# EAGLE library part ATTINY*-84_20PIN (library IC_Embedded)
Atmel tiny24/44/84, 8-bit Microcontroller with 2/4/8K Bytes In-System Programmable Flash Datasheet <http://ww1.microchip.com/downloads/en/DeviceDoc/doc8006.pdf> Note:For this part User needs to add thermal via in thermal pad while designing a board.
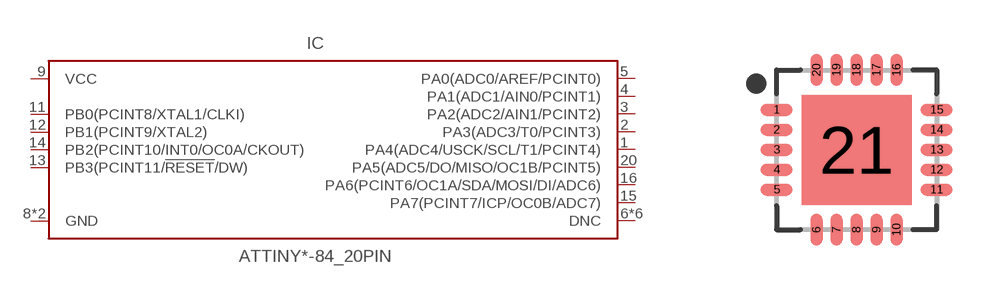
[diagram p23: symbol with the pads of QFN50P400X400X80-21T275; footprint QFN50P400X400X80-21T275]

Designator prefix IC

## ATTINY24-20MU-84_20PIN (CATEGORY: IC_Embedded; DESCRIPTION: AVR AVR® ATtiny Microcontroller IC 8-Bit 20MHz 2KB (1K x 16) FLASH 20-QFN-EP (4x4); MANUFACTURER: Microchip Technology; MPN: ATtiny24-20MU; OPERATING_TEMP: -40°C to +85°C; PART_STATUS: Active; ROHS_COMPLIANT: COMPLIANT; SERIES: ATtiny24; SPEED: 20 MHz; SUB-CATEGORY: Microcontroller; TYPE: 8 Bit Microcontroller; VALUE: ATtiny24-20MU), ATTINY24-20MUR-84_20PIN (CATEGORY: IC_Embedded; DESCRIPTION: AVR AVR® ATtiny Microcontroller IC 8-Bit 20MHz 2KB (1K x 16) FLASH 20-QFN-EP (4x4); MANUFACTURER: Microchip Technology; MPN: ATtiny24-20MUR; OPERATING_TEMP: -40°C to +85°C; PART_STATUS: Active; ROHS_COMPLIANT: COMPLIANT; SERIES: ATtiny24; SPEED: 20 MHz; SUB-CATEGORY: Microcontroller; TYPE: 8 Bit Microcontroller; VALUE: ATtiny24-20MUR), ATTINY24V-10MU-84_20PIN (CATEGORY: IC_Embedded; DESCRIPTION: AVR series Microcontroller IC 8-Bit 10MHz 2KB (1K x 16) FLASH 20-QFN-EP (4x4); MANUFACTURER: Microchip Technology; MPN: ATtiny24V-10MU; OPERATING_TEMP: -40°C to +85°C; PART_STATUS: Active; ROHS_COMPLIANT: COMPLIANT; SERIES: ATtiny24; SPEED: 10 MHz; SUB-CATEGORY: Microcontroller; TYPE: 8 Bit Microcontroller; VALUE: ATtiny24V-10MU), ATTINY24V-10MUR-84_20PIN (CATEGORY: IC_Embedded; DESCRIPTION: AVR series Microcontroller IC 8-Bit 10MHz 2KB (1K x 16) FLASH 20-QFN-EP (4x4); MANUFACTURER: Microchip Technology; MPN: ATtiny24V-10MUR; OPERATING_TEMP: -40°C to +85°C; PART_STATUS: Active; ROHS_COMPLIANT: COMPLIANT; SERIES: ATtiny24; SPEED: 10 MHz; SUB-CATEGORY: Microcontroller; TYPE: 8 Bit Microcontroller; VALUE: ATtiny24V-10MUR), ATTINY44-20MU-84_20PIN (CATEGORY: IC_Embedded; DESCRIPTION: AVR series Microcontroller IC 8-Bit 20MHz 4KB (2K x 16) FLASH 20-QFN-EP (4x4); MANUFACTURER: Microchip Technology; MPN: ATtiny44-20MU; OPERATING_TEMP: -40°C to +85°C; PART_STATUS: Active; ROHS_COMPLIANT: COMPLIANT; SERIES: ATtiny44; SPEED: 20 MHz; SUB-CATEGORY: Microcontroller; TYPE: 8 Bit Microcontroller; VALUE: ATtiny44-20MU), ATTINY44-20MUR-84_20PIN (CATEGORY: IC_Embedded; DESCRIPTION: AVR AVR® ATtiny Microcontroller IC 8-Bit 20MHz 4KB (2K x 16) FLASH 20-QFN-EP (4x4); MANUFACTURER: Microchip Technology; MPN: ATtiny44-20MUR; OPERATING_TEMP: -40°C to +85°C; PART_STATUS: Active; ROHS_COMPLIANT: COMPLIANT; SERIES: ATtiny44; SPEED: 20 MHz; SUB-CATEGORY: Microcontroller; TYPE: 8 Bit Microcontroller; VALUE: ATtiny44-20MUR), ATTINY44V-10MU-84_20PIN (CATEGORY: IC_Embedded; DESCRIPTION: AVR AVR® ATtiny Microcontroller IC 8-Bit 10MHz 4KB (2K x 16) FLASH 20-QFN-EP (4x4); MANUFACTURER: Microchip Technology; MPN: ATtiny44V-10MU; OPERATING_TEMP: -40°C to +85°C; PART_STATUS: Active; ROHS_COMPLIANT: COMPLIANT; SERIES: ATtiny44; SPEED: 10 MHz; SUB-CATEGORY: Microcontroller; TYPE: 8 Bit Microcontroller; VALUE: ATtiny44V-10MU), ATTINY44V-10MUR-84_20PIN (CATEGORY: IC_Embedded; DESCRIPTION: AVR series Microcontroller IC 8-Bit 10MHz 4KB (2K x 16) FLASH 20-QFN-EP (4x4); MANUFACTURER: Microchip Technology; MPN: ATtiny44V-10MUR; OPERATING_TEMP: -40°C to +85°C; PART_STATUS: Active; ROHS_COMPLIANT: COMPLIANT; SERIES: ATtiny44; SPEED: 10 MHz; SUB-CATEGORY: Microcontroller; TYPE: 8 Bit Microcontroller; VALUE: ATtiny44V-10MUR), ATTINY84-20MU-84_20PIN (CATEGORY: IC_Embedded; DESCRIPTION: AVR AVR® ATtiny Microcontroller IC 8-Bit 20MHz 8KB (4K x 16) FLASH 20-QFN-EP (4x4); MANUFACTURER: Microchip Technology; MPN: ATtiny84-20MU; OPERATING_TEMP: -40°C to +85°C; PART_STATUS: Active; ROHS_COMPLIANT: COMPLIANT; SERIES: ATtiny84; SPEED: 20 MHz; SUB-CATEGORY: Microcontroller; TYPE: 8 Bit Microcontroller; VALUE: ATtiny84-20MU), ATTINY84-20MUR-84_20PIN (CATEGORY: IC_Embedded; DESCRIPTION: AVR AVR® ATtiny Microcontroller IC 8-Bit 20MHz 8KB (4K x 16) FLASH 20-QFN-EP (4x4); MANUFACTURER: Microchip Technology; MPN: ATtiny84-20MUR; OPERATING_TEMP: -40°C to +85°C; PART_STATUS: Active; ROHS_COMPLIANT: COMPLIANT; SERIES: ATtiny84; SPEED: 20 MHz; SUB-CATEGORY: Microcontroller; TYPE: 8 Bit Microcontroller; VALUE: ATtiny84-20MUR), ATTINY84V-10MU-84_20PIN (CATEGORY: IC_Embedded; DESCRIPTION: AVR AVR® ATtiny Microcontroller IC 8-Bit 10MHz 8KB (4K x 16) FLASH 20-QFN-EP (4x4); MANUFACTURER: Microchip Technology; MPN: ATtiny84V-10MU; OPERATING_TEMP: -40°C to +85°C; PART_STATUS: Active; ROHS_COMPLIANT: COMPLIANT; SERIES: ATtiny84; SPEED: 10 MHz; SUB-CATEGORY: Microcontroller; TYPE: 8 Bit Microcontroller; VALUE: ATtiny84V-10MU), ATTINY84V-10MUR-84_20PIN (CATEGORY: IC_Embedded; DESCRIPTION: AVR AVR® ATtiny Microcontroller IC 8-Bit 10MHz 8KB (4K x 16) FLASH 20-QFN-EP (4x4); MANUFACTURER: Microchip Technology; MPN: ATtiny84V-10MUR; OPERATING_TEMP: -40°C to +85°C; PART_STATUS: Active; ROHS_COMPLIANT: COMPLIANT; SERIES: ATtiny84; SPEED: 10 MHz; SUB-CATEGORY: Microcontroller; TYPE: 8 Bit Microcontroller; VALUE: ATtiny84V-10MUR)  [QFN50P400X400X80-21T275]
1  PA4(ADC4/USCK/SCL/T1/PCINT4)
2  PA3(ADC3/T0/PCINT3)
3  PA2(ADC2/AIN1/PCINT2)
4  PA1(ADC1/AIN0/PCINT1)
5  PA0(ADC0/AREF/PCINT0)
6  DNC  nc
7  DNC  nc
8  GND  pwr
9  VCC  pwr
10  DNC  nc
11  PB0(PCINT8/XTAL1/CLKI)
12  PB1(PCINT9/XTAL2)
13  PB3(PCINT11/!RESET!/DW)
14  PB2(PCINT10/INT0/OC0A/CKOUT)
15  PA7(PCINT7/ICP/OC0B/ADC7)
16  PA6(PCINT6/OC1A/SDA/MOSI/DI/ADC6)
17  DNC  nc
18  DNC  nc
19  DNC  nc
20  PA5(ADC5/DO/MISO/OC1B/PCINT5)
21  GND  pwr

## Footprint QFN50P400X400X80-21T275 (pad centres in mm)
20-QFN, 0.50 mm pitch, 4.00 X 4.00 X 0.80 mm body, 2.75 X 2.75 mm thermal pad 20-pin QFN package with 0.50 mm pitch with body size 4.00 X 4.00 X 0.80 mm and thermal pad size 2.75 X 2.75 mm
smd 0.8 x 0.3: 1 -2,1; 2 -2,0.5; 3 -2,0; 4 -2,-0.5; 5 -2,-1; 11 2,-1; 12 2,-0.5; 13 2,0; 14 2,0.5; 15 2,1
smd 0.3 x 0.8: 6 -1,-2; 7 -0.5,-2; 8 0,-2; 9 0.5,-2; 10 1,-2; 16 1,2; 17 0.5,2; 18 0,2; 19 -0.5,2; 20 -1,2
smd 2.75 x 2.75: 21 0,0